# EAGLE library part B8B-ZR-SM4A-TF (library con-jst-cubic)
B8B-ZR-SM4-TF JST ZH 8pin side entry solder tab
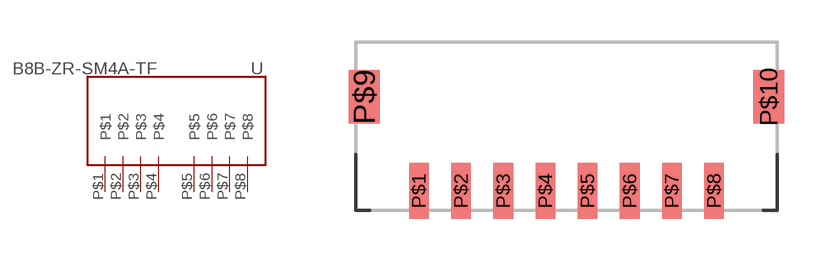
[diagram p2: symbol with the pads of B8B-ZR-SM4A-TF; footprint B8B-ZR-SM4A-TF]

Designator prefix -

## B8B-ZR-SM4A-TF  [B8B-ZR-SM4A-TF]
P$1  P$1
P$2  P$2
P$3  P$3
P$4  P$4
P$5  P$5
P$6  P$6
P$7  P$7
P$8  P$8

## Footprint B8B-ZR-SM4A-TF (pad centres in mm)
smd 0.7 x 2: P$1 -5.25,-2.3; P$2 -3.75,-2.3; P$3 -2.25,-2.3; P$4 -0.75,-2.3; P$5 0.75,-2.3; P$6 2.25,-2.3; P$7 3.75,-2.3; P$8 5.25,-2.3
smd 1.1 x 1.9: P$9 -7.2,1.05; P$10 7.2,1.05